# Altium integrated library GoldFinger.IntLib: 1 symbol
Pins are listed as number, name and electrical type; pins without a type are passive.

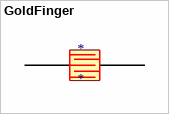
[diagram p0: symbol GoldFinger]

## GoldFinger
designator *
footprint GoldFinger
pins: 1 PIN_1, 2 PIN_2